# EAGLE library part OPA2677 (library Jim)
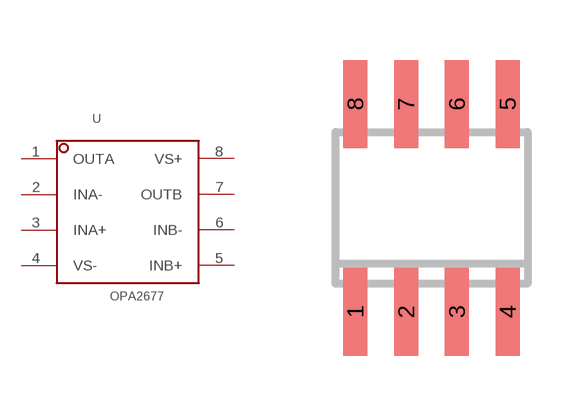
[diagram p12: symbol with the pads of SOIC-8; footprint SOIC-8]

Designator prefix -

## OPA2677  [SOIC-8]
1  OUTA  out
2  INA-  in
3  INA+  in
4  VS-  pwr
5  INB+  in
6  INB-  in
7  OUTB  out
8  VS+  pwr

## Footprint SOIC-8 (pad centres in mm)
smd 0.6 x 2.2: 1 -1.905,-2.6; 2 -0.635,-2.6; 3 0.635,-2.6; 4 1.905,-2.6; 5 1.905,2.6; 6 0.635,2.6; 7 -0.635,2.6; 8 -1.905,2.6